# EAGLE library part MICRO_SD_TFR_HEADER (library MicroSD TFR Header)
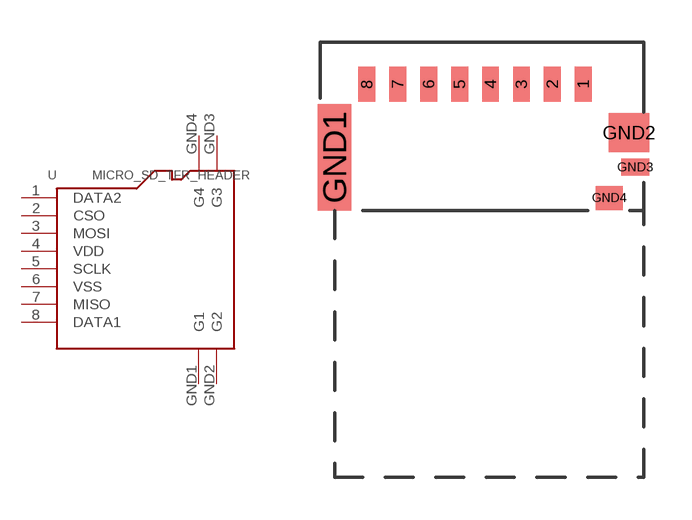
[diagram p0: symbol with the pads of MICRO_SD_TFR_HEADER; footprint MICRO_SD_TFR_HEADER]

Designator prefix -

## MICRO_SD_TFR_HEADER  [MICRO_SD_TFR_HEADER]
1  DATA2
2  CSO
3  MOSI
4  VDD
5  SCLK
6  VSS
7  MISO
8  DATA1
GND1  G1
GND2  G2
GND3  G3
GND4  G4

## Footprint MICRO_SD_TFR_HEADER (pad centres in mm)
smd 0.6 x 1.25: 1 3.85,2; 2 2.75,2; 3 1.65,2; 4 0.55,2; 5 -0.55,2; 6 -1.65,2; 7 -2.75,2; 8 -3.85,2
smd 1.2 x 3.8: GND1 -5,-0.6
smd 1.45 x 1.4: GND2 5.475,0.275
smd 1 x 0.6: GND3 5.7,-0.95
smd 0.95 x 0.85: GND4 4.775,-2.05